# EAGLE library part ESP32-WROOM-32 (library kxn_Standard_wireless_module)
Check availability <https://pricing.snapeda.com/parts/ESP32-WROOM-32/Espressif%20Systems/view-part?ref=eda>
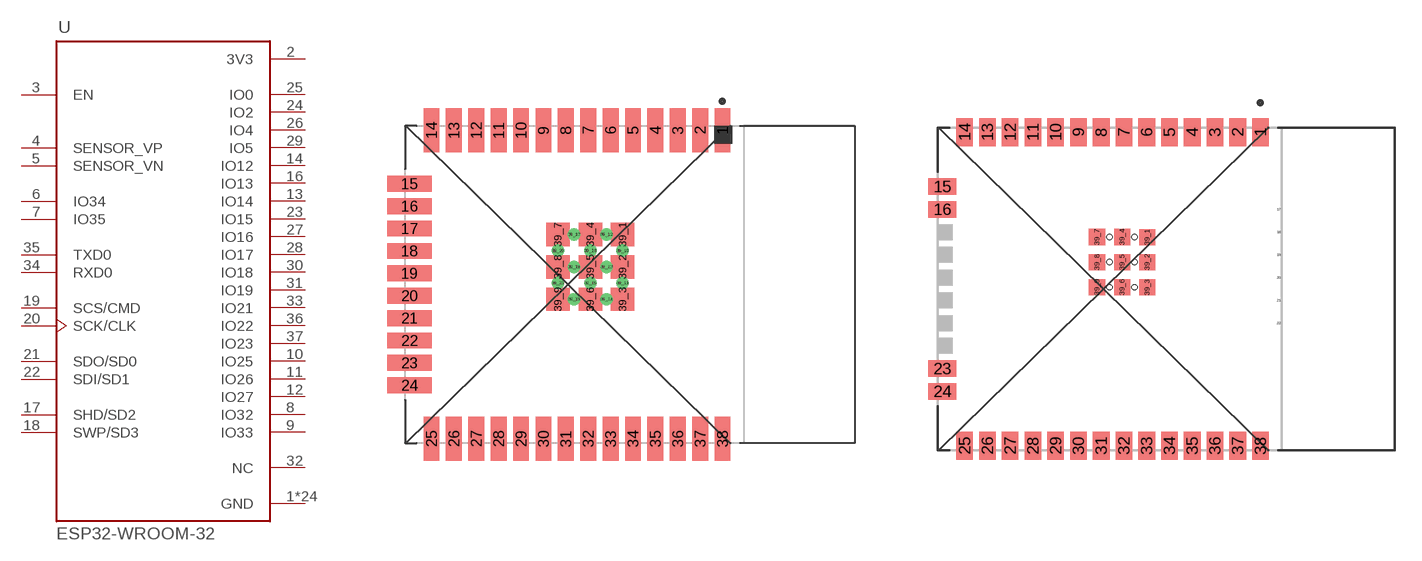
[diagram p3: symbol with the pads of KAYO_MODULE_ESP32-WROOM-32; footprints KAYO_MODULE_ESP32-WROOM-32, KAYO_MODULE_ESP32-WROOM-32-NO_PIN_SD]

Designator prefix U

## ESP32-WROOM-32 (AVAILABILITY: In Stock; DESCRIPTION: Bluetooth, WiFi 802.11b/g/n, Bluetooth v4.2 +EDR, Class 1, 2 and 3 Transceiver Module 2.4GHz ~ 2.5GHz Antenna Not Included, U.FL Surface Mount; MF: Espressif Systems; MP: ESP32-WROOM-32; PACKAGE: Module Espressif Systems; PRICE: None; PURCHASE-URL: https://pricing.snapeda.com/search/part/ESP32-WROOM-32/?ref=eda)  [KAYO_MODULE_ESP32-WROOM-32]
1  GND  pwr
2  3V3  pwr
3  EN  in
4  SENSOR_VP  in
5  SENSOR_VN  in
6  IO34  in
7  IO35  in
8  IO32
9  IO33
10  IO25
11  IO26
12  IO27
13  IO14
14  IO12
15  GND  pwr
16  IO13
17  SHD/SD2
18  SWP/SD3
19  SCS/CMD
20  SCK/CLK
21  SDO/SD0
22  SDI/SD1
23  IO15
24  IO2
25  IO0
26  IO4
27  IO16
28  IO17
29  IO5
30  IO18
31  IO19
32  NC  nc
33  IO21
34  RXD0
35  TXD0
36  IO22
37  IO23
38  GND  pwr
39_1  GND  pwr
39_2  GND  pwr
39_3  GND  pwr
39_4  GND  pwr
39_5  GND  pwr
39_6  GND  pwr
39_7  GND  pwr
39_8  GND  pwr
39_9  GND  pwr
39_10  GND  pwr
39_11  GND  pwr
39_12  GND  pwr
39_13  GND  pwr
39_14  GND  pwr
39_15  GND  pwr
39_16  GND  pwr
39_17  GND  pwr
39_18  GND  pwr
39_19  GND  pwr
39_20  GND  pwr
39_21  GND  pwr

## ESP32-WROOM-32_NO_PIN_SD  [KAYO_MODULE_ESP32-WROOM-32-NO_PIN_SD]
1  GND  pwr
2  3V3  pwr
3  EN  in
4  SENSOR_VP  in
5  SENSOR_VN  in
6  IO34  in
7  IO35  in
8  IO32
9  IO33
10  IO25
11  IO26
12  IO27
13  IO14
14  IO12
15  GND  pwr
16  IO13
17  SHD/SD2
18  SWP/SD3
19  SCS/CMD
20  SCK/CLK
21  SDO/SD0
22  SDI/SD1
23  IO15
24  IO2
25  IO0
26  IO4
27  IO16
28  IO17
29  IO5
30  IO18
31  IO19
32  NC  nc
33  IO21
34  RXD0
35  TXD0
36  IO22
37  IO23
38  GND  pwr
39_1  GND  pwr
39_2  GND  pwr
39_3  GND  pwr
39_4  GND  pwr
39_5  GND  pwr
39_6  GND  pwr
39_7  GND  pwr
39_8  GND  pwr
39_9  GND  pwr

## ESP32-WROOM-32_32_UE  [KAYO_MODULE_ESP32-WROOM-32UE]
Pads as for KAYO_MODULE_ESP32-WROOM-32-NO_PIN_SD

## Footprint KAYO_MODULE_ESP32-WROOM-32 (pad centres in mm)
smd 0.9 x 2.5: 1 8.76,8.75; 2 7.49,8.75; 3 6.22,8.75; 4 4.95,8.75; 5 3.68,8.75; 6 2.41,8.75; 7 1.14,8.75; 8 -0.13,8.75; 9 -1.4,8.75; 10 -2.67,8.75; 11 -3.94,8.75; 12 -5.21,8.75; 13 -6.48,8.75; 14 -7.75,8.75; 25 -7.75,-8.75; 26 -6.48,-8.75; 27 -5.21,-8.75; 28 -3.94,-8.75; 29 -2.67,-8.75; 30 -1.4,-8.75; 31 -0.13,-8.75; 32 1.14,-8.75; 33 2.41,-8.75; 34 3.68,-8.75; 35 4.95,-8.75; 36 6.22,-8.75; 37 7.49,-8.75; 38 8.76,-8.75
smd 2.5 x 0.9: 15 -9,5.715; 16 -9,4.445; 17 -9,3.175; 18 -9,1.905; 19 -9,0.635; 20 -9,-0.635; 21 -9,-1.905; 22 -9,-3.175; 23 -9,-4.445; 24 -9,-5.715
smd 1.33 x 1.33: 39_1 3.095,2.835; 39_2 3.095,1; 39_3 3.095,-0.835; 39_4 1.26,2.835; 39_5 1.26,1; 39_6 1.26,-0.835; 39_7 -0.575,2.835; 39_8 -0.575,1; 39_9 -0.575,-0.835
drill 0.2 pad 0.3: 39_10 3.095,1.917; 39_11 3.095,0.083; 39_12 2.178,2.835; 39_13 2.178,1; 39_14 2.178,-0.835; 39_15 1.26,1.917; 39_16 1.26,0.083; 39_17 0.343,2.835; 39_18 0.343,1; 39_19 0.343,-0.835; 39_20 -0.575,1.917; 39_21 -0.575,0.083

## Footprint KAYO_MODULE_ESP32-WROOM-32-NO_PIN_SD (pad centres in mm)
smd 0.93 x 1.55: 1 8.76,8.75; 2 7.49,8.75; 3 6.22,8.75; 4 4.95,8.75; 5 3.68,8.75; 6 2.41,8.75; 7 1.14,8.75; 8 -0.13,8.75; 9 -1.4,8.75; 10 -2.67,8.75; 11 -3.94,8.75; 12 -5.21,8.75; 13 -6.48,8.75; 14 -7.75,8.75; 25 -7.75,-8.75; 26 -6.48,-8.75; 27 -5.21,-8.75; 28 -3.94,-8.75; 29 -2.67,-8.75; 30 -1.4,-8.75; 31 -0.13,-8.75; 32 1.14,-8.75; 33 2.41,-8.75; 34 3.68,-8.75; 35 4.95,-8.75; 36 6.22,-8.75; 37 7.49,-8.75; 38 8.76,-8.75
smd 1.55 x 0.93: 15 -9,5.715; 16 -9,4.445; 23 -9,-4.445; 24 -9,-5.715
smd 0.001 x 0.001: 17 9.78,4.445; 18 9.78,3.175; 19 9.78,1.905; 20 9.78,0.635; 21 9.78,-0.635; 22 9.78,-1.905
smd 0.9 x 0.9: 39_1 2.44,2.89; 39_2 2.44,1.5; 39_3 2.44,0.1; 39_4 1.04,2.9; 39_5 1.04,1.5; 39_6 1.04,0.1; 39_7 -0.36,2.9; 39_8 -0.36,1.5; 39_9 -0.36,0.1
hole 0.3 at 0.34,1.5
hole 0.3 at 0.34,0.1
hole 0.3 at 0.34,2.9
hole 0.3 at 1.74,2.9
hole 0.3 at 1.74,1.5
hole 0.3 at 1.74,0.1

## Footprint KAYO_MODULE_ESP32-WROOM-32UE (pad centres in mm)
https://www.espressif.com/sites/default/files/documentation/esp32-wroom-32e_esp32-wroom-32ue_datasheet_en.pdf
smd 0.93 x 1.55: 1 8.76,8.75; 2 7.49,8.75; 3 6.22,8.75; 4 4.95,8.75; 5 3.68,8.75; 6 2.41,8.75; 7 1.14,8.75; 8 -0.13,8.75; 9 -1.4,8.75; 10 -2.67,8.75; 11 -3.94,8.75; 12 -5.21,8.75; 13 -6.48,8.75; 14 -7.75,8.75; 25 -7.75,-8.75; 26 -6.48,-8.75; 27 -5.21,-8.75; 28 -3.94,-8.75; 29 -2.67,-8.75; 30 -1.4,-8.75; 31 -0.13,-8.75; 32 1.14,-8.75; 33 2.41,-8.75; 34 3.68,-8.75; 35 4.95,-8.75; 36 6.22,-8.75; 37 7.49,-8.75; 38 8.76,-8.75
smd 1.55 x 0.93: 15 -9,5.715; 16 -9,4.445; 23 -9,-4.445; 24 -9,-5.715
smd 0.001 x 0.001: 17 9.78,4.445; 18 9.78,3.175; 19 9.78,1.905; 20 9.78,0.635; 21 9.78,-0.635; 22 9.78,-1.905
smd 0.9 x 0.9: 39_1 2.44,2.89; 39_2 2.44,1.5; 39_3 2.44,0.1; 39_4 1.04,2.9; 39_5 1.04,1.5; 39_6 1.04,0.1; 39_7 -0.36,2.9; 39_8 -0.36,1.5; 39_9 -0.36,0.1
hole 0.3 at 0.34,1.5
hole 0.3 at 0.34,0.1
hole 0.3 at 0.34,2.9
hole 0.3 at 1.74,2.9
hole 0.3 at 1.74,1.5
hole 0.3 at 1.74,0.1